# EAGLE library part 62201421821 (library Wurth_Elektronik2)
WR-PHD 1.27mm Dual Socket Header, 14 Pins=>Code : Con_BTB_SHD_1.27_2_62201421821 <http://katalog.we-online.de/media/thumbs2/eican/thb_Con_BTB_SHD_1.27_2_6220xx21821_pf2.jpg> Details see: http://katalog.we-online.de/en/em/622_0xx_218_21 Created 2014-06-04, Karrer Zheng 2014 (C) Würth Elektronik
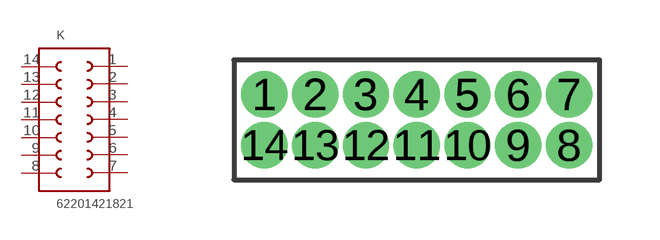
[diagram p303: symbol with the pads of 62201421821; footprint 62201421821]

Designator prefix K

## 62201421821  [62201421821]
1  1  pas
2  2  pas
3  3  pas
4  4  pas
5  5  pas
6  6  pas
7  7  pas
8  8  pas
9  9  pas
10  10  pas
11  11  pas
12  12  pas
13  13  pas
14  14  pas

## Footprint 62201421821 (pad centres in mm)
WR-PHD 1.27mm Dual Socket Header, 14 Pins
drill 0.65: 1 -3.81,0.635; 2 -2.54,0.635; 3 -1.27,0.635; 4 0,0.635; 5 1.27,0.635; 6 2.54,0.635; 7 3.81,0.635; 8 3.81,-0.635; 9 2.54,-0.635; 10 1.27,-0.635; 11 0,-0.635; 12 -1.27,-0.635; 13 -2.54,-0.635; 14 -3.81,-0.635